# Altium footprint library Components - 16.09.24 - 19.49.PcbLib: 1 footprints
Each footprint in its own frame and in the unit in brackets; x right, y up, seen from the top. Pads: shape width x height; smd on the part's side, far side on the other; paste and mask are expansions set on the pad; w line width, h text height; cw(c..) or ccw(c..) is an arc to the next point about the centre after c.
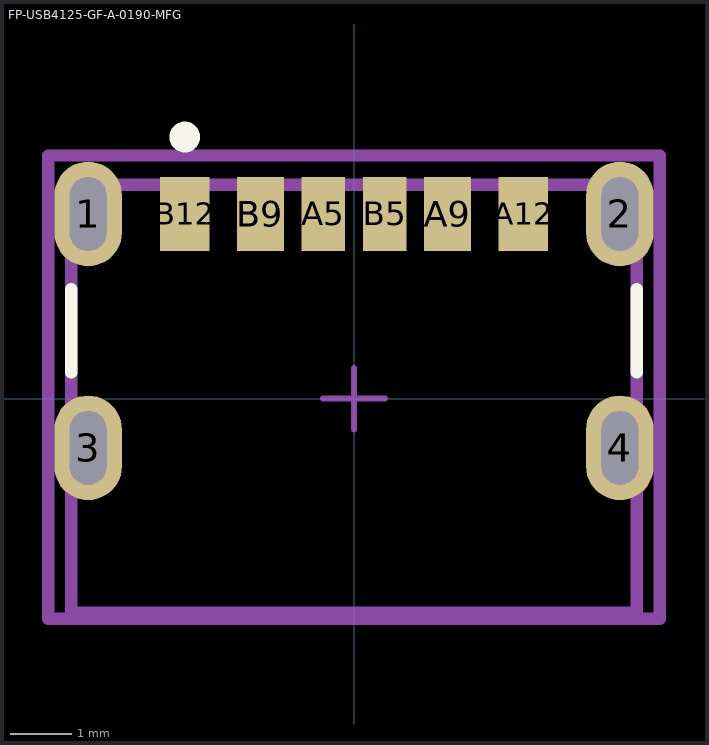
[diagram p0: the footprint, top view; thin cyan lines are the x and y axes]

## FP-USB4125-GF-A-0190-MFG [mm]
pads (10):
  rrect100% 1.1x1.7 hole 1.2 slot 0.6 at 0 deg paste-1000 mask+0: 1(-4.32,3) 2(4.32,3) 3(-4.32,-0.8) 4(4.32,-0.8)
  rect 0.7x1.2 smd paste+0 mask+0: A5(-0.5,3) B5(0.5,3)
  rect 0.76x1.2 smd paste+0 mask+0: A9(1.52,3) B9(-1.52,3)
  rect 0.8x1.2 smd paste+0 mask+0: A12(2.75,3) B12(-2.75,3)
Top Overlay:
  circle w0.25: c-2.75,4.25 r0.125
  lines w0.2: -4.595,0.425 -4.595,1.775 ; 4.595,0.425 4.595,1.775
Top Assembly:
  lines w0.2: -4.97,-3.575 -4.97,3.95 4.97,3.95 4.97,-3.575 -4.97,-3.575
  text ".Designator" at 0,0.187 h1
Top 3D Body:
  lines w0.2: -4.595,-3.475 -4.595,3.475 4.595,3.475 4.595,-3.475 -4.595,-3.475
Top Courtyard:
  lines w0.2: -4.97,-3.575 -4.97,3.95 4.97,3.95 4.97,-3.575 -4.97,-3.575
Top Component Center:
  lines w0.1: -0.5,0 0.5,0 ; 0,-0.5 0,0.5
3D body "Conn_GCT_USB4125-GF-A-0190_eec.STEP": height 0.25, standoff 0, extent -4.97,-3.575 4.97,3.95